# EAGLE library part NJW4131 (library taki-library)
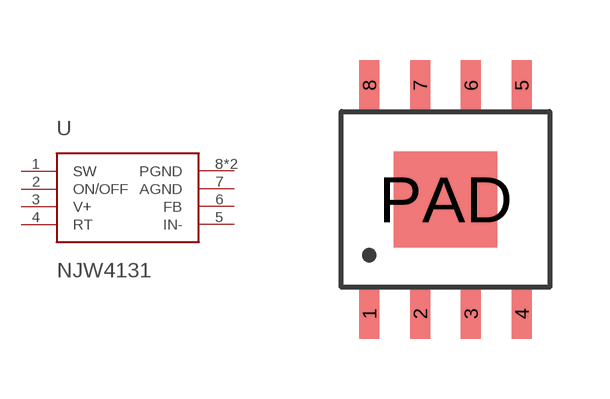
[diagram p38: symbol with the pads of HSOP8; footprint HSOP8]

Designator prefix U

## NJW4131  [HSOP8]
1  SW
2  ON/OFF
3  V+
4  RT
5  IN-
6  FB
7  AGND
8  PGND
PAD  PGND

## Footprint HSOP8 (pad centres in mm)
smd 0.5 x 1.27: 1 -1.905,-2.858; 2 -0.635,-2.858; 3 0.635,-2.858; 4 1.905,-2.858; 5 1.905,2.858; 6 0.635,2.858; 7 -0.635,2.858; 8 -1.905,2.858
smd 2.6 x 2.4: PAD 0,0